# Altium schematic symbol library Teensy.SchLib: 2 symbols
Pins are listed as number, name and electrical type; pins without a type are passive.

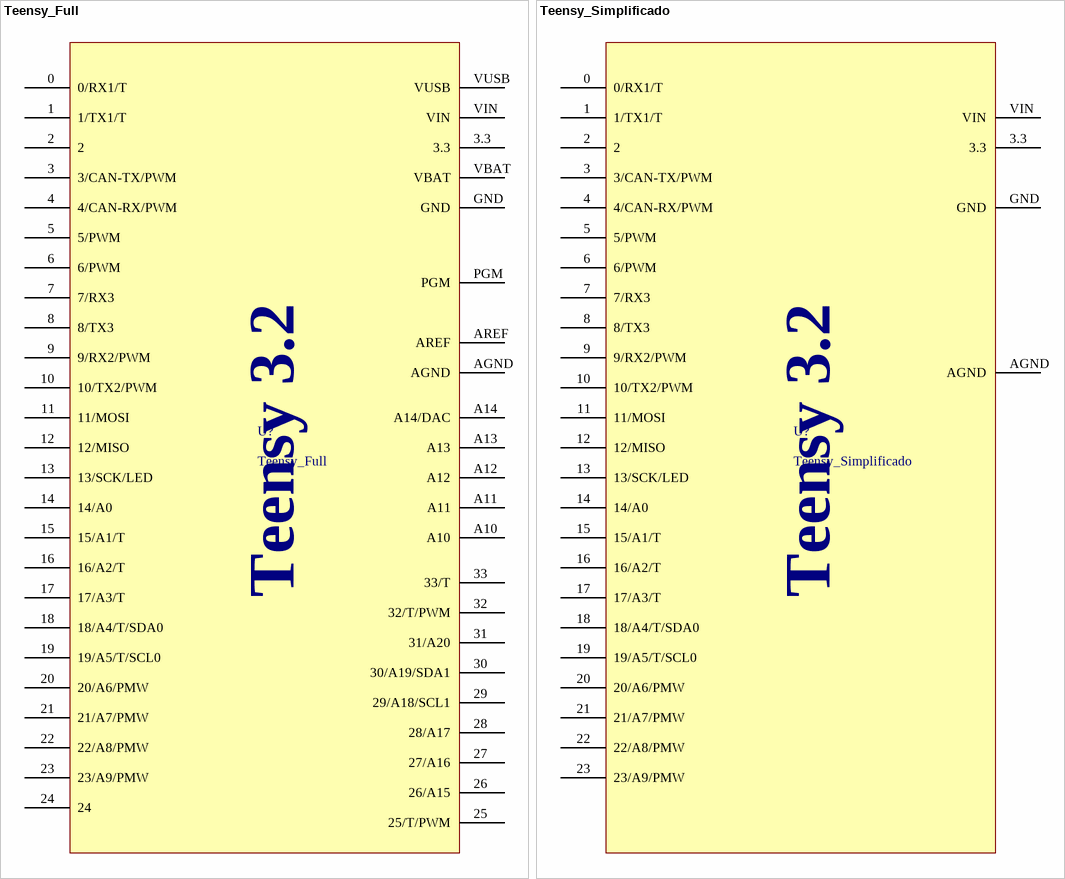
[diagram p0: symbols Teensy_Full to Teensy_Simplificado]

## Teensy_Full
designator U?
Full; Creado por: Marcelo Ortiz
footprint Teensy 3.2 Full (Teensy 3.2 72MHz)
pins: 0 0/RX1/T, 1 1/TX1/T, 2, 3 3/CAN-TX/PWM, 3.3, 4 4/CAN-RX/PWM, 5 5/PWM, 6 6/PWM, 7 7/RX3, 8 8/TX3, 9 9/RX2/PWM, 10 10/TX2/PWM, 11 11/MOSI, 12 12/MISO, 13 13/SCK/LED, 14 14/A0, 15 15/A1/T, 16 16/A2/T, 17 17/A3/T, 18 18/A4/T/SDA0, 19 19/A5/T/SCL0, 20 20/A6/PMW, 21 21/A7/PMW, 22 22/A8/PMW, 23 23/A9/PMW, 24, 25 25/T/PWM, 26 26/A15, 27 27/A16, 28 28/A17, 29 29/A18/SCL1, 30 30/A19/SDA1, 31 31/A20, 32 32/T/PWM, 33 33/T, A10, A11, A12, A13, A14 A14/DAC, AGND, AREF, GND, PGM, VBAT, VIN, VUSB
text: Teensy 3.2

## Teensy_Simplificado
designator U?
Simplificado; Creado por: Marcelo Ortiz
footprint Teensy 3.2 Simplificado (Teensy 3.2 72MHz)
pins: 0 0/RX1/T, 1 1/TX1/T, 2, 3 3/CAN-TX/PWM, 3.3, 4 4/CAN-RX/PWM, 5 5/PWM, 6 6/PWM, 7 7/RX3, 8 8/TX3, 9 9/RX2/PWM, 10 10/TX2/PWM, 11 11/MOSI, 12 12/MISO, 13 13/SCK/LED, 14 14/A0, 15 15/A1/T, 16 16/A2/T, 17 17/A3/T, 18 18/A4/T/SDA0, 19 19/A5/T/SCL0, 20 20/A6/PMW, 21 21/A7/PMW, 22 22/A8/PMW, 23 23/A9/PMW, AGND, GND, VIN
text: Teensy 3.2